# Altium footprint library 24-SOIC.PcbLib: 1 footprints
Each footprint in its own frame and in the unit in brackets; x right, y up, seen from the top. Pads: shape width x height; smd on the part's side, far side on the other; paste and mask are expansions set on the pad; w line width, h text height; cw(c..) or ccw(c..) is an arc to the next point about the centre after c.
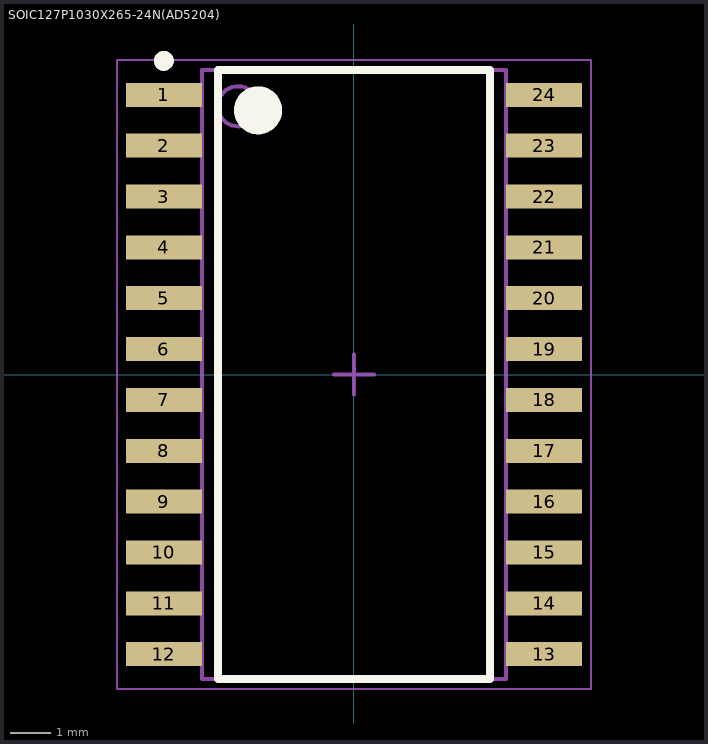
[diagram p0: the footprint, top view; thin cyan lines are the x and y axes]

## SOIC127P1030X265-24N(AD5204) [mm] "SOIC, 24-Leads, Body 15.40x7.50mm, Pitch 1.27mm, IPC Medium Density"
height 2.65
pads (24):
  rect 1.9x0.6 smd: 1(-4.75,6.985) 2(-4.75,5.715) 3(-4.75,4.445) 4(-4.75,3.175) 5(-4.75,1.905) 6(-4.75,0.635) 7(-4.75,-0.635) 8(-4.75,-1.905) 9(-4.75,-3.175) 10(-4.75,-4.445) 11(-4.75,-5.715) 12(-4.75,-6.985) 13(4.75,-6.985) 14(4.75,-5.715) 15(4.75,-4.445) 16(4.75,-3.175) 17(4.75,-1.905) 18(4.75,-0.635) 19(4.75,0.635) 20(4.75,1.905) 21(4.75,3.175) 22(4.75,4.445) 23(4.75,5.715) 24(4.75,6.985)
Top Overlay:
  circle w0.25: c-4.75,7.835 r0.125
  circle w0.6: c-2.4,6.6 r0.3
  lines w0.2: -3.4,-7.6 -3.4,7.6 3.4,7.6 3.4,-7.6 -3.4,-7.6
Mechanical 13:
  circle w0.1: c-2.9,6.7 r0.5
  lines w0.1: -3.8,-7.6 -3.8,7.6 3.8,7.6 3.8,-7.6 -3.8,-7.6
Mechanical 15:
  lines w0.05: -5.925,-7.85 -5.925,7.85 5.925,7.85 5.925,-7.85 -5.925,-7.85
  lines w0.1: -0.5,0 0.5,0 ; 0,-0.5 0,0.5
3D body: height 2.65, standoff 0.1, extent -3.8,-7.6 3.8,7.6